# EAGLE library part BGS14PN10E6327XTSA1 (library BGS14PN10E6327XTSA1)
RF Switch ICs CMOS SWITCH Source: Datasheet
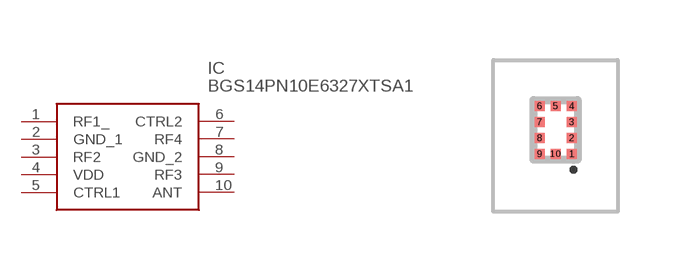
[diagram p0: symbol with the pads of BGS14PN10E6327XTSA1; footprint BGS14PN10E6327XTSA1]

Designator prefix IC

## BGS14PN10E6327XTSA1 (Description: RF Switch ICs CMOS SWITCH; Height: 0.4mm; Manufacturer_Name: Infineon; Manufacturer_Part_Number: BGS14PN10E6327XTSA1; Mouser_Part_Number: 726-BGS14PN10E6327X; Mouser_Price-Stock: https://www.mouser.co.uk/ProductDetail/Infineon-Technologies/BGS14PN10E6327XTSA1?qs=Qyx3PVvfm66pcd0rXrz2LA%3D%3D)  [BGS14PN10E6327XTSA1]
1  RF1_
2  GND_1
3  RF2
4  VDD
5  CTRL1
6  CTRL2
7  RF4
8  GND_2
9  RF3
10  ANT

## Footprint BGS14PN10E6327XTSA1 (pad centres in mm)
BGS14PN10E6327XTSA1-3
smd 0.25 x 0.25: 1 0.4,-0.6; 2 0.4,-0.2; 3 0.4,0.2; 4 0.4,0.6; 5 0,0.6; 6 -0.4,0.6; 7 -0.4,0.2; 8 -0.4,-0.2; 9 -0.4,-0.6; 10 0,-0.6